# Altium schematic symbol library Tramdo.SCHLIB: 12 symbols
Pins are listed as number, name and electrical type; pins without a type are passive.

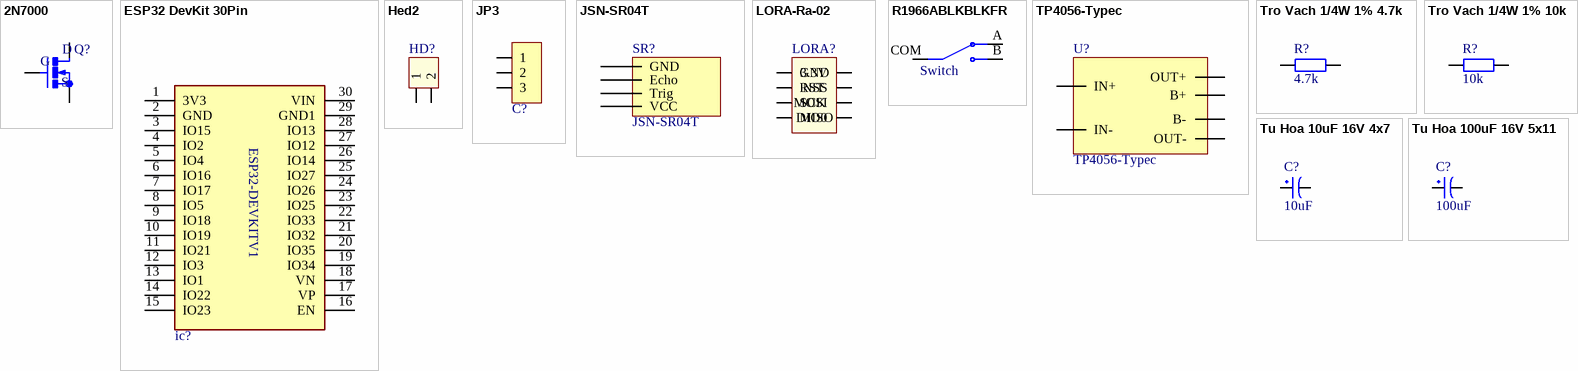
[diagram p0: symbols 2N7000 to Tu Hoa 100uF 16V 5x11]

## 2N7000
designator Q?  (value not drawn)
N-Channel 60 V 200mA (Ta) 400mW (Ta) Through Hole TO-92-3; MF: onsemi; SnapEDA_Link: https://www.snapeda.com/parts/2N7000/Onsemi/view-part/?ref=snap; Package: E-PKG AXIAL-LEADED-2 ON Semiconductor; Value: *; MP: 2N7000; Check_prices: https://www.snapeda.com/parts/2N7000/Onsemi/view-part/?ref=eda
footprint TO92
pins: 1 S, 2 G, 3 D

## ESP32 DevKit 30Pin
designator ic?  (value not drawn)
footprint ESP32 DevKit V1 30Pin CAo
pins: 1 3V3, 2 GND, 3 IO15, 4 IO2, 5 IO4, 6 IO16, 7 IO17, 8 IO5, 9 IO18, 10 IO19, 11 IO21, 12 IO3, 13 IO1, 14 IO22, 15 IO23, 16 EN, 17 VP, 18 VN, 19 IO34, 20 IO35, 21 IO32, 22 IO33, 23 IO25, 24 IO26, 25 IO27, 26 IO14, 27 IO12, 28 IO13, 29 GND1, 30 VIN
text: ESP32-DEVKITV1

## Hed2
designator HD?, comment Header 2  (value not drawn)
Header 2 (Green); Value: Header 2
footprint HED2 (Header 2, 2 pin, hight 300mil, Pin to Pin 200, Colour Green)
footprint HED2T (Header 2, 2 pin, hight 300mil, Pin to Pin 200, Colour Green)
footprint HED2B (Header 2, 2 pin, hight 300mil, Pin to Pin 150, Colour White)
pins: 1, 2

## JP3
designator C?  (value not drawn)
WR-PHD 2.54 mm Angled Socket Header; Manufacturer: W¨¹rth Elektronik eiSos GmbH; partNo: 613003143121; ComponentLink1 Description: Manufacturer; ComponentLink2 Description: Datasheet; NoPins: 03; Created Date: 29 March 2013; ComponentLink1URL: http://www.we-online.com; ComponentLink2URL: http://katalog.we-online.de/em/datasheet/6130xx143121.pdf; Created by: Karrer Zheng
footprint JP3-C1T (3 row, straight, gold plating)
footprint JP3-D1C (3 pins, 1 row, right angled, gold plating)
footprint JP3-C1C (03p 1 row Right angle)
footprint JP3-D1T (3 pins, 1 row, straight, gold plating)
footprint JP3-CLOSED
pins: 1, 2, 3

## JSN-SR04T
designator SR?
Sensor sieu am
footprint JSN-SR04T (Sensor sieu am use 3.3V-5V)
pins: Echo, GND, Trig, VCC

## LORA-Ra-02
designator LORA?, comment Connector 4x2  (value not drawn)
Value: Connector 4x2
footprint Lora-ra02 (Connector 4x2)
pins: 1 GND, 2 RST, 3 SCK, 4 MISO, 5 3.3V, 6 NSS, 7 MOSI, 8 DIO0

## R1966ABLKBLKFR
designator S?, comment Switch
Rocker Switch,R1966 Series,SPST,ON-OFF,Concave,Black,I/O, 15A, 125VAC,R/A P | E-Switch R1966ABLKBLKFR; SnapEDA_Link: https://www.snapeda.com/parts/R1966ABLKBLKFR/E-Switch/view-part/?ref=snap; Package: None; Value: *; MF: E-Switch; MP: R1966ABLKBLKFR; Check_prices: https://www.snapeda.com/parts/R1966ABLKBLKFR/E-Switch/view-part/?ref=eda
footprint SW_R1966ABLKBLKFR
pins: A 6A, B 6A, COM 1

## TP4056-Typec
designator U?
footprint TP4056
pins: B+, B-, IN+ (power), IN-, OUT+, OUT-

## Tro Vach 1/4W 1% 4.7k
designator R?, comment 4.7k
Cắm; Don_Vi: Con; So_Chan: 2; Ten_Linh_Kien: Trở Vạch 1/4w 1% 4.7k; Ma_Hang: MH006350; Chung_Loai: Cắm; Kieu_Chan: *
footprint tro vach 1/4w
pins: 1, 2

## Tro Vach 1/4W 1% 10k
designator R?, comment 10k
Cắm; Don_Vi: Con; So_Chan: 2; Ten_Linh_Kien: Trở Vạch 1/4w 1% 10k; Ma_Hang: MH006349; Chung_Loai: Cắm; Kieu_Chan: *
footprint tro vach 1/4w
pins: 1, 2

## Tu Hoa 10uF 16V 4x7
designator C?, comment 10uF
Cắm; So_Chan: 2; Don_Vi: Con; Ten_Linh_Kien: Tụ Hóa 10uF 16V; Ma_Hang: MH006855; Chung_Loai: Cắm; Kieu_Chan: *
footprint tu hoa 4mm
pins: 1, 2

## Tu Hoa 100uF 16V 5x11
designator C?, comment 100uF
Cắm; Don_Vi: Con; So_Chan: 2; Ten_Linh_Kien: Tụ Hóa 100uF 16V 5x11MM; Ma_Hang: MH008417; Chung_Loai: Cắm; Kieu_Chan: *
footprint tu hoa 5mm
pins: 1, 2